# Altium footprint library veloled.PcbLib: 2 footprints
Each footprint in its own frame and in the unit in brackets; x right, y up, seen from the top. Pads: shape width x height; smd on the part's side, far side on the other; paste and mask are expansions set on the pad; w line width, h text height; cw(c..) or ccw(c..) is an arc to the next point about the centre after c.
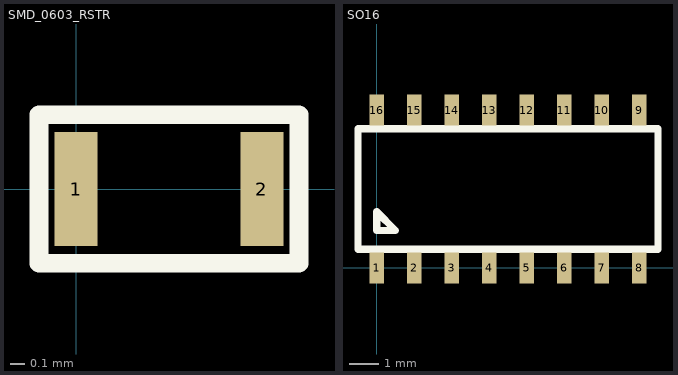
[diagram p0: the footprints below, top view; thin cyan lines are the x and y axes]

## SMD_0603_RSTR [mm]
pads (2):
  rect 0.3x0.8 smd: 1(0,0) 2(1.301,0)
Top Overlay:
  lines w0.13: -0.26,-0.52 1.561,-0.52 1.561,0.52 -0.26,0.52 -0.26,-0.52

## SO16 [mm]
pads (16):
  rect 0.5x1.05 smd: 1(0,0) 2(1.27,0) 3(2.54,0) 4(3.81,0) 5(5.08,0) 6(6.35,0) 7(7.62,0) 8(8.89,0) 9(8.89,5.35) 10(7.62,5.35) 11(6.35,5.35) 12(5.08,5.35) 13(3.81,5.35) 14(2.54,5.35) 15(1.27,5.35) 16(0,5.35)
Top Overlay:
  lines w0.25: -0.635,4.699 -0.635,0.635 9.525,0.635 9.525,4.699 ; -0.635,4.715 9.525,4.715 ; 0,1.27 0.635,1.27 0,1.905 0,1.27